# EAGLE library part FFC16 (library dan-ffc)
FFC (flat flex cable) connector - 16 positions
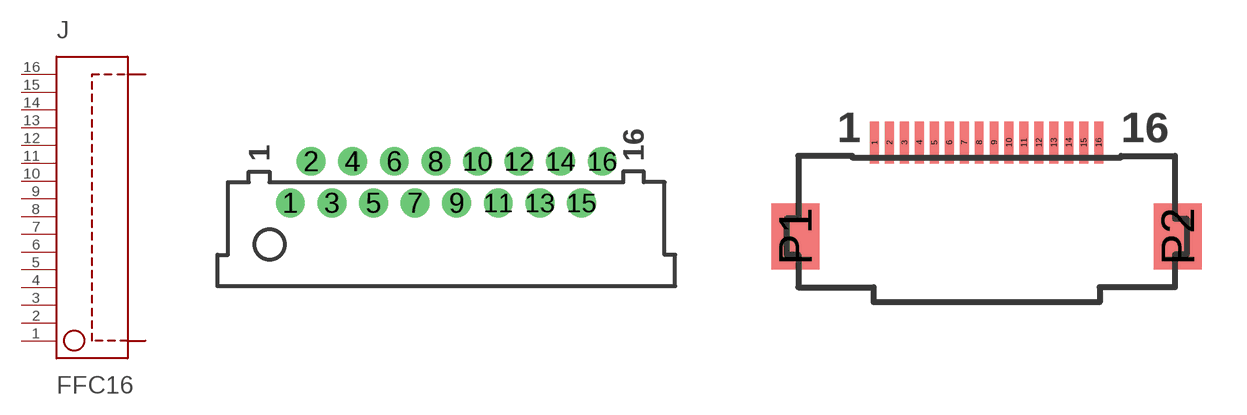
[diagram p3: symbol with the pads of SLW16R-1C7LF; footprints SLW16R-1C7LF, MOLEX-52892-1695]

Designator prefix J

## FFC16-SLW16R-1C7LF  [SLW16R-1C7LF]
1  P$1  pas
2  P$2  pas
3  P$3  pas
4  P$4  pas
5  P$5  pas
6  P$6  pas
7  P$7  pas
8  P$8  pas
9  P$9  pas
10  P$10  pas
11  P$11  pas
12  P$12  pas
13  P$13  pas
14  P$14  pas
15  P$15  pas
16  P$16  pas

## FFC16-52892-1695  [MOLEX-52892-1695]
Pads as for SLW16R-1C7LF

## Footprint SLW16R-1C7LF (pad centres in mm)
SLW16R-1C7LF 1mm pitch flat-flex (FFC) connector; 16 position, right-angle, zero-insertion-force
drill 0.85 pad 1.39 round: 1 -7.5,-1; 2 -6.5,1; 3 -5.5,-1; 4 -4.5,1; 5 -3.5,-1; 6 -2.5,1; 7 -1.5,-1; 8 -0.5,1; 9 0.5,-1; 10 1.5,1; 11 2.5,-1; 12 3.5,1; 13 4.5,-1; 14 5.5,1; 15 6.5,-1; 16 7.5,1

## Footprint MOLEX-52892-1695 (pad centres in mm)
Molex 52892-1695 16 conductor, 0.5mm, right-angle, surface-mount From: http://www.molex.com/pdm_docs/sd/528923095_sd.pdf
smd 0.297 x 1.4: 1 -3.75,0; 2 -3.25,0; 3 -2.75,0; 4 -2.25,0; 5 -1.75,0; 6 -1.25,0; 7 -0.75,0; 8 -0.25,0; 9 0.25,0; 10 0.75,0; 11 1.25,0; 12 1.75,0; 13 2.25,0; 14 2.75,0; 15 3.25,0; 16 3.75,0
smd 1.6 x 2.2: P1 -6.4,-3.15; P2 6.4,-3.15